# EAGLE library part GEC03DABN-M30 (library con-sullins)
HEADER - Vertical
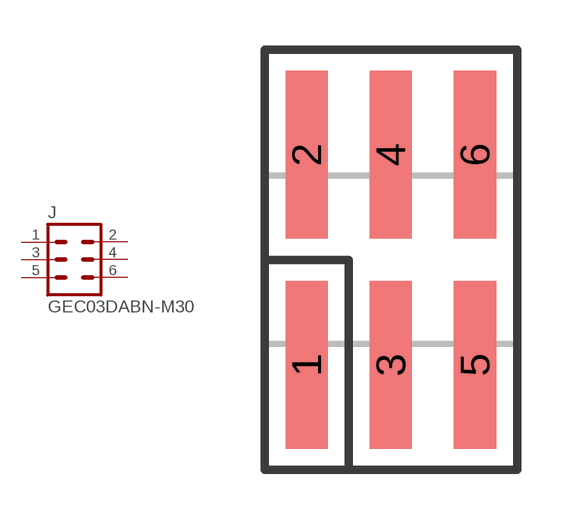
[diagram p0: symbol with the pads of GXC03; footprint GXC03]

Designator prefix J

## GEC03DABN-M30  [GXC03]
1  1  pas
2  2  pas
3  3  pas
4  4  pas
5  5  pas
6  6  pas

## Footprint GXC03 (pad centres in mm)
SMD HEADER - 0.1", Vertical
smd 1.27 x 5.08: 1 -2.54,-3.175; 2 -2.54,3.175; 3 0,-3.175; 4 0,3.175; 5 2.54,-3.175; 6 2.54,3.175